# Altium schematic symbol library LEDs.SchLib: 11 symbols
Pins are listed as number, name and electrical type; pins without a type are passive.

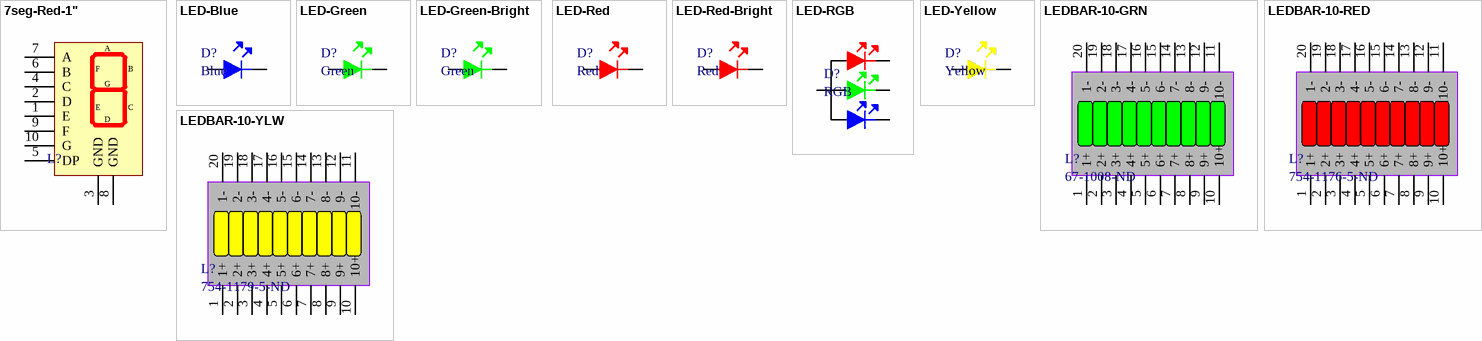
[diagram p0: symbols 7seg-Red-1" to LEDBAR-10-YLW]

## 7seg-Red-1"
designator L?, comment 754-1700-5-ND  (value not drawn)
DISPLAY 7-SEG 1" SGL RED 10DIP; Manufacturer: Kingbright; Manufacturer Part Number: SC10-21SRWA; Luminous Intensity: 120mcd; Forward Voltage: 3.7V; Forward Current: 30mA; Test Current: 20mA; Character Height: 26mm; Number of Characters: 1; Character Width: 13mm; Element Configuration: Common Cathode; Operating Supply Voltage: 1.85V; Wavelength: 640nm; Max Power Dissipation: 150mW; Number of Segments: 7; Supplier 1: Digi-Key; Stock 1: 1370; Pricing 1: 1=3.04, 10=2.691, 100=1.5624, 500=1.3888, 1000=1.1935, 2500=1.1284, 5000=1.10236 (USD); Mount: Through Hole; Case/Package: DIP; Number of Pins: 10; Color: Red; Min Operating Temperature: -40°C; Max Operating Temperature: 85°C; Package Quantity: 20; Packaging: Rail/Tube; Illumination Color: Red; Number of Positions: 1; Length: 1.34inch; Height: 1.339inch; Width: 0.945inch; REACH SVHC: No SVHC; ComponentLink1URL: http://www.farnell.com/datasheets/2047554.pdf?src-supplier=Element14; ComponentLink1Description: http://www.farnell.com/datasheets/2047554.pdf?src-supplier=Element14; ComponentLink2URL: https://www.distrelec.biz/Web/Downloads/ta/_e/iuSC10-21SRWA_data_e.pdf?mime=application%2Fpdf&src-supplier=Distrelec; ComponentLink2Description: https://www.distrelec.biz/Web/Downloads/ta/_e/iuSC10-21SRWA_data_e.pdf?mime=application%2Fpdf&src-supplier=Distrelec; ComponentLink3URL: http://www.rapidonline.com/pdf/57-0222.pdf?src-supplier=Rapid+Electronics; ComponentLink3Description: http://www.rapidonline.com/pdf/57-0222.pdf?src-supplier=Rapid+Electronics; ComponentLink4URL: http://uk.rs-online.com/webdocs/0b79/0900766b80b79adb.pdf?src-supplier=RSComponents; ComponentLink4Description: http://uk.rs-online.com/webdocs/0b79/0900766b80b79adb.pdf?src-supplier=RSComponents; ComponentLink5URL: http://www.mouser.com/ds/2/216/SC10-21SRWA-46725.pdf?src-supplier=Mouser; ComponentLink5Description: http://www.mouser.com/ds/2/216/SC10-21SRWA-46725.pdf?src-supplier=Mouser; ComponentLink6URL: http://www.kingbrightusa.com/images/catalog/SPEC/SC10-21SRWA.pdf?src-supplier=Digi-Key; ComponentLink6Description: http://www.kingbrightusa.com/images/catalog/SPEC/SC10-21SRWA.pdf?src-supplier=Digi-Key; Supplier Part Number 1: 754-1700-5-ND
footprint 7SEG-1"
pins: 1 E, 2 D, 3 GND, 4 C, 5 DP, 6 B, 7 A, 8 GND, 9 F, 10 G

## LED-Blue
designator D?, comment Blue
LED BLUE CLEAR 0603 SMD; Manufacturer: Wurth Electronics; Manufacturer Part Number: 150060BS75000; Luminous Intensity: 145mcd; Forward Current: 30mA; Forward Voltage: 3.2V; Wavelength: 470nm; Viewing Angle: 140°; Lens Style: Clear,Rectangular; Test Current: 20mA; Supplier 1: Digi-Key; Stock 1: 46078; Pricing 1: 1=0.16, 50=0.145, 100=0.125, 500=0.108 (USD); Mount: Surface Mount; Case/Package: 0603; Color: Blue; Case Code (Metric): 1608; Case Code (Imperial): 0603; Min Operating Temperature: -40°C; Max Operating Temperature: 85°C; Package Quantity: 4000; Packaging: Cut Tape; Dominant Wavelength: 470nm; Length: 1.6mm; Height: 0.7mm; Width: 0.8mm; REACH SVHC: Unknown; ComponentLink1URL: https://www.distrelec.biz/Web/Downloads/_t/ds/150060BS75000_eng_tds.pdf?mime=application%2Fpdf&src-supplier=Distrelec; ComponentLink1Description: https://www.distrelec.biz/Web/Downloads/_t/ds/150060BS75000_eng_tds.pdf?mime=application%2Fpdf&src-supplier=Distrelec; ComponentLink2URL: https://katalog.we-online.de/led/datasheet/150060BS75000.pdf?src-supplier=Digi-Key; ComponentLink2Description: https://katalog.we-online.de/led/datasheet/150060BS75000.pdf?src-supplier=Digi-Key; ComponentLink3URL: http://www.farnell.com/datasheets/1911343.pdf?src-supplier=Element14; ComponentLink3Description: http://www.farnell.com/datasheets/1911343.pdf?src-supplier=Element14; ComponentLink4URL: http://www.produktinfo.conrad.com/datenblaetter/750000-774999/759426-da-01-en-CHIPLED_0603_W_KL_BLAU_150060BS75000.pdf?src-supplier=Conrad; ComponentLink4Description: http://www.produktinfo.conrad.com/datenblaetter/750000-774999/759426-da-01-en-CHIPLED_0603_W_KL_BLAU_150060BS75000.pdf?src-supplier=Conrad; Supplier Part Number 1: 732-4966-6-ND
footprint LED-0603
pins: 1, 2

## LED-Green
designator D?, comment Green
LED GREEN CLEAR 0603 SMD; Manufacturer: Wurth Electronics; Manufacturer Part Number: 150060VS75000; Luminous Intensity: 40mcd; Viewing Angle: 140°; Forward Voltage: 2V; Wavelength: 570nm; Lens Style: Clear,Rectangular; Forward Current: 30mA; Test Current: 20mA; Supplier 1: Digi-Key; Stock 1: 118118; Pricing 1: 1=0.14, 50=0.133, 100=0.114, 500=0.099 (USD); Mount: Surface Mount; Case/Package: 0603; Number of Pins: 2; Color: Green; Case Code (Metric): 1608; Case Code (Imperial): 0603; Min Operating Temperature: -40°C; Max Operating Temperature: 85°C; Package Quantity: 1; Packaging: Tape and Reel; Dominant Wavelength: 570nm; Length: 1.6mm; Height: 0.7mm; Width: 0.8mm; REACH SVHC: Unknown; ComponentLink1URL: https://katalog.we-online.de/led/datasheet/150060VS75000.pdf?src-supplier=Digi-Key; ComponentLink1Description: https://katalog.we-online.de/led/datasheet/150060VS75000.pdf?src-supplier=Digi-Key; Supplier Part Number 1: 732-4980-1-ND
footprint LED-0603
pins: 1, 2

## LED-Green-Bright
designator D?, comment Green
LED GREEN CLEAR 0603 SMD; Manufacturer: Inolux; Manufacturer Part Number: IN-S63AT5G; Lens Style: Flat; Luminous Intensity: 350mcd; Forward Voltage: 3V; Test Current: 5mA; Viewing Angle: 120°; Dominant Wavelength: 525nm; Lens Size: 0.8mm; Supplier 1: Digi-Key; Stock 1: 13337; Pricing 1: 1=0.52, 10=0.372, 100=0.1654, 500=0.11576, 1000=0.09508 (USD); Mount: Surface Mount; Case/Package: 0603; Color: Green; Lens Color: Clear; Case Code (Imperial): 0603; Case Code (Metric): 1608; Packaging: Tape and Reel; Lens Transparency: Clear; Length: 1.6mm; Height: 0.39mm; Width: 0.8mm; ComponentLink1URL: http://www.inolux-corp.com/datasheet/SMDLED/Mono%20Color%20Top%20View/IN-S63AT%20Series_V1.1.pdf?src-supplier=Digi-Key; ComponentLink1Description: http://www.inolux-corp.com/datasheet/SMDLED/Mono%20Color%20Top%20View/IN-S63AT%20Series_V1.1.pdf?src-supplier=Digi-Key; Supplier Part Number 1: 1830-1062-6-ND
footprint LED-0603
pins: 1, 2

## LED-Red
designator D?, comment Red
LED RED CLEAR 0603 SMD; Manufacturer: Wurth Electronics; Manufacturer Part Number: 150060RS75000; Viewing Angle: 140°; Lens Style: Clear,Rectangular; Luminous Intensity: 250mcd; Forward Current: 30mA; Forward Voltage: 2V; Wavelength: 625nm; Test Current: 20mA; Supplier 1: Digi-Key; Stock 1: 18518; Pricing 1: 1=0.14, 50=0.133, 100=0.114, 500=0.099 (USD); Mount: Surface Mount; Case/Package: 0603; Color: Red; Case Code (Metric): 1608; Case Code (Imperial): 0603; Min Operating Temperature: -40°C; Max Operating Temperature: 85°C; Package Quantity: 1; Packaging: Cut Tape; Dominant Wavelength: 625nm; Length: 1.6mm; Height: 0.7mm; Width: 0.8mm; REACH SVHC: Unknown; ComponentLink1URL: https://katalog.we-online.de/led/datasheet/150060RS75000.pdf?src-supplier=Digi-Key; ComponentLink1Description: https://katalog.we-online.de/led/datasheet/150060RS75000.pdf?src-supplier=Digi-Key; ComponentLink2URL: http://www.produktinfo.conrad.com/datenblaetter/750000-774999/759428-da-01-en-CHIPLED_0603_W_KL_ROT_150060RS75000.pdf?src-supplier=Conrad; ComponentLink2Description: http://www.produktinfo.conrad.com/datenblaetter/750000-774999/759428-da-01-en-CHIPLED_0603_W_KL_ROT_150060RS75000.pdf?src-supplier=Conrad; Supplier Part Number 1: 732-4978-6-ND
footprint LED-0603
pins: 1, 2

## LED-Red-Bright
designator D?, comment Red
LED RED CLEAR 0603 SMD; Manufacturer: Inolux; Manufacturer Part Number: IN-S63ATR; Lens Style: Flat; Luminous Intensity: 45mcd; Forward Voltage: 2.2V; Test Current: 20mA; Viewing Angle: 120°; Dominant Wavelength: 622nm; Lens Size: 0.8mm; Supplier 1: Digi-Key; Stock 1: 6977; Pricing 1: 1=0.33, 10=0.24, 100=0.1136, 500=0.07576, 1000=0.05934 (USD); Mount: Surface Mount; Case/Package: 0603; Color: Red; Lens Color: Clear; Case Code (Imperial): 0603; Case Code (Metric): 1608; Packaging: Cut Tape; Lens Transparency: Clear; Length: 1.6mm; Height: 0.4mm; Width: 0.8mm; ComponentLink1URL: http://www.inolux-corp.com/datasheet/SMDLED/Mono%20Color%20Top%20View/IN-S63AT%20Series_V1.1.pdf?src-supplier=Digi-Key; ComponentLink1Description: http://www.inolux-corp.com/datasheet/SMDLED/Mono%20Color%20Top%20View/IN-S63AT%20Series_V1.1.pdf?src-supplier=Digi-Key; Supplier Part Number 1: 1830-1065-6-ND
footprint LED-0603
pins: 1, 2

## LED-RGB
designator D?, comment RGB
LED RGB CLEAR 4SMD; Manufacturer: Everlight; Manufacturer Part Number: EAST1616RGBB4; Color: Blue,Green,Red; Lens Color: Colorless; Lens Style: Flat; Element Configuration: Common Anode; Forward Voltage: 2.8V; Test Current: 5mA; Viewing Angle: 120°; Lens Size: 1.1mm; Supplier 1: Digi-Key; Stock 1: 11185; Pricing 1: 1=0.49, 10=0.343, 100=0.2003, 500=0.13736, 1000=0.11446 (USD); Mount: Surface Mount; Case/Package: 0606; Case Code (Imperial): 0606; Case Code (Metric): 1616; Packaging: Tape and Reel; Lens Transparency: Clear; Length: 1.6mm; Height: 0.45mm; Width: 1.6mm; ComponentLink1URL: https://everlightamericas.com/index.php?controller=attachment&amp;id_attachment=2827&src-supplier=Digi-Key; ComponentLink1Description: https://everlightamericas.com/index.php?controller=attachment&amp;id_attachment=2827&src-supplier=Digi-Key; ComponentLink2URL: https://everlightamericas.com/index.php?controller=attachment&id_attachment=2827&src-supplier=Digi-Key; ComponentLink2Description: https://everlightamericas.com/index.php?controller=attachment&id_attachment=2827&src-supplier=Digi-Key; Supplier Part Number 1: 1080-1552-6-ND
footprint LED-4SMD
pins: 1, 2, 3, 4

## LED-Yellow
designator D?, comment Yellow
LED YELLOW CLEAR 0603 SMD; Manufacturer: Wurth Electronics; Manufacturer Part Number: 150060YS75000; Viewing Angle: 140°; Lens Style: Clear,Rectangular; Wavelength: 590nm; Luminous Intensity: 120mcd; Forward Voltage: 2V; Forward Current: 30mA; Test Current: 20mA; Supplier 1: Digi-Key; Stock 1: 78; Pricing 1: 1=0.14, 50=0.133, 100=0.114, 500=0.099 (USD); Mount: Surface Mount; Case/Package: 0603; Case Code (Metric): 1608; Case Code (Imperial): 0603; Color: Yellow; Min Operating Temperature: -40°C; Max Operating Temperature: 85°C; Package Quantity: 4000; Packaging: Tape and Reel; Dominant Wavelength: 590nm; Length: 1.6mm; Height: 0.7mm; Width: 0.8mm; REACH SVHC: Unknown; ComponentLink1URL: http://katalog.we-online.de/led/datasheet/150060YS75000.pdf?src-supplier=Newark; ComponentLink1Description: http://katalog.we-online.de/led/datasheet/150060YS75000.pdf?src-supplier=Newark; ComponentLink2URL: https://katalog.we-online.de/led/datasheet/150060YS75000.pdf?src-supplier=Digi-Key; ComponentLink2Description: https://katalog.we-online.de/led/datasheet/150060YS75000.pdf?src-supplier=Digi-Key; ComponentLink3URL: http://www.farnell.com/datasheets/1911348.pdf?src-supplier=Element14; ComponentLink3Description: http://www.farnell.com/datasheets/1911348.pdf?src-supplier=Element14; ComponentLink4URL: https://www.distrelec.biz/Web/Downloads/_t/ds/150060YS75000_eng_tds.pdf?mime=application%2Fpdf&src-supplier=Distrelec; ComponentLink4Description: https://www.distrelec.biz/Web/Downloads/_t/ds/150060YS75000_eng_tds.pdf?mime=application%2Fpdf&src-supplier=Distrelec; ComponentLink5URL: http://www.produktinfo.conrad.com/datenblaetter/750000-774999/759432-da-01-en-CHIPLED_0603_W_KL_GELB_150060YS75000.pdf?src-supplier=Conrad; ComponentLink5Description: http://www.produktinfo.conrad.com/datenblaetter/750000-774999/759432-da-01-en-CHIPLED_0603_W_KL_GELB_150060YS75000.pdf?src-supplier=Conrad; Supplier Part Number 1: 732-4981-6-ND
footprint LED-0603
pins: 1, 2

## LEDBAR-10-GRN
designator L?, comment 67-1008-ND
LED ARRAY 10X25MM 10SEG GRN DIFF; Manufacturer: Lumex; Manufacturer Part Number: SSA-LXB10GW-GF/LP; Color: Green; Voltage Rating: 2.2V; Operating Supply Voltage: 2.6V; Number of Contacts: 18; Display Type: Bar Graph; Luminous Intensity: 8mcd; Forward Current: 20mA; Wavelength: 565nm; Power Consumption: 105mW; Viewing Angle: 160°; Lens Style: Diffused; Current: 25mA; Number of LEDs: 10; Supplier 1: Digi-Key; Stock 1: 6048; Pricing 1: 1=2.28, 10=2.018, 100=1.1718, 500=1.0416, 1000=0.89513, 2500=0.8463, 5000=0.82677, 10000=0.81375 (USD); Mount: Through Hole; Min Operating Temperature: -40°C; Max Operating Temperature: 85°C; Package Quantity: 20; Packaging: Bulk; Forward Voltage: 2.2V; Illumination Color: Green; Length: 25.1mm; Height: 6.8mm; Width: 10.1mm; REACH SVHC: No SVHC; Lead Free: Lead Free; ComponentLink1URL: http://www.lumex.com/content/files/ProductAttachment/SSA-LXB10GW-GF-LP.pdf?src-supplier=Digi-Key; ComponentLink1Description: http://www.lumex.com/content/files/ProductAttachment/SSA-LXB10GW-GF-LP.pdf?src-supplier=Digi-Key; ComponentLink2URL: http://www.farnell.com/datasheets/677482.pdf?src-supplier=Farnell; ComponentLink2Description: http://www.farnell.com/datasheets/677482.pdf?src-supplier=Farnell; ComponentLink3URL: http://www.farnell.com/datasheets/677482.pdf?src-supplier=Element14; ComponentLink3Description: http://www.farnell.com/datasheets/677482.pdf?src-supplier=Element14; ComponentLink4URL: http://www.farnell.com/datasheets/269031.pdf?src-supplier=Element14; ComponentLink4Description: http://www.farnell.com/datasheets/269031.pdf?src-supplier=Element14; ComponentLink5URL: http://www.mouser.com/ds/2/244/SSA-LXB10GW-GF%20LP-115645.pdf?src-supplier=Mouser; ComponentLink5Description: http://www.mouser.com/ds/2/244/SSA-LXB10GW-GF%20LP-115645.pdf?src-supplier=Mouser; Supplier Part Number 1: 67-1008-ND
footprint LEDBAR-10
pins: 1 1+, 2 2+, 3 3+, 4 4+, 5 5+, 6 6+, 7 7+, 8 8+, 9 9+, 10 10+, 11 10-, 12 9-, 13 8-, 14 7-, 15 6-, 16 5-, 17 4-, 18 3-, 19 2-, 20 1-

## LEDBAR-10-RED
designator L?, comment 754-1176-5-ND
LED BAR GRAPH 10SEG 627NM RED; Manufacturer: Kingbright; Manufacturer Part Number: DC-10EWA; Lens Color: White; Lens Style: Diffused; Voltage Rating: 2V; Luminous Intensity: 9mcd; Wavelength: 625nm; Current: 30mA; Number of Segments: 10; Forward Current: 20mA; Lens Size: 1.78mm; Supplier 1: Digi-Key; Stock 1: 21; Pricing 1: 1=2.79, 10=2.474, 100=1.4364, 500=1.2768, 1000=1.09725, 2500=1.0374, 5000=1.01346, 10000=0.9975, 25000=0.97356 (USD); Mount: Through Hole; Color: Red; Min Operating Temperature: -40°C; Max Operating Temperature: 85°C; Forward Voltage: 2V; Illumination Color: Red; Package Quantity: 20; Operating Supply Voltage: 2V; Packaging: Rail/Tube; Number of LEDs: 10; Display Type: Bar Graph; Length: 25.4mm; Height: 10.16mm; Width: 25.4mm; REACH SVHC: No SVHC; Lead Free: Lead Free; ComponentLink1URL: https://www.distrelec.biz/Web/Downloads/12/75/tl661272-661275.pdf?mime=application%2Fpdf&src-supplier=Distrelec; ComponentLink1Description: https://www.distrelec.biz/Web/Downloads/12/75/tl661272-661275.pdf?mime=application%2Fpdf&src-supplier=Distrelec; ComponentLink2URL: http://www.mouser.com/ds/2/216/DC10EWA-8483.pdf?src-supplier=Mouser; ComponentLink2Description: http://www.mouser.com/ds/2/216/DC10EWA-8483.pdf?src-supplier=Mouser; ComponentLink3URL: http://www.kingbrightusa.com/images/catalog/SPEC/DC10EWA.pdf?src-supplier=Digi-Key; ComponentLink3Description: http://www.kingbrightusa.com/images/catalog/SPEC/DC10EWA.pdf?src-supplier=Digi-Key; ComponentLink4URL: http://uk.rs-online.com/webdocs/1385/0900766b81385017.pdf?src-supplier=RSComponents; ComponentLink4Description: http://uk.rs-online.com/webdocs/1385/0900766b81385017.pdf?src-supplier=RSComponents; ComponentLink5URL: http://www.rapidonline.com/pdf/55-0190e.pdf?src-supplier=Rapid+Electronics; ComponentLink5Description: http://www.rapidonline.com/pdf/55-0190e.pdf?src-supplier=Rapid+Electronics; ComponentLink6URL: http://www.farnell.com/datasheets/1683489.pdf?src-supplier=Element14; ComponentLink6Description: http://www.farnell.com/datasheets/1683489.pdf?src-supplier=Element14; ComponentLink7URL: http://www.produktinfo.conrad.com/datenblaetter/175000-199999/184837-da-01-en-RGB_ROT_LED_BAND.pdf?src-supplier=Conrad; ComponentLink7Description: http://www.produktinfo.conrad.com/datenblaetter/175000-199999/184837-da-01-en-RGB_ROT_LED_BAND.pdf?src-supplier=Conrad; ComponentLink8URL: http://www.produktinfo.conrad.com/datenblaetter/150000-174999/160137-da-01-en-BARGRAPH_ANZEIGE_TYP_DC_10EWA.pdf?src-supplier=Conrad; ComponentLink8Description: http://www.produktinfo.conrad.com/datenblaetter/150000-174999/160137-da-01-en-BARGRAPH_ANZEIGE_TYP_DC_10EWA.pdf?src-supplier=Conrad; Supplier Part Number 1: 754-1176-5-ND
footprint LEDBAR-10
pins: 1 1+, 2 2+, 3 3+, 4 4+, 5 5+, 6 6+, 7 7+, 8 8+, 9 9+, 10 10+, 11 10-, 12 9-, 13 8-, 14 7-, 15 6-, 16 5-, 17 4-, 18 3-, 19 2-, 20 1-

## LEDBAR-10-YLW
designator L?, comment 754-1179-5-ND
LED BAR GRAPH 10SEG 590NM YLW; Manufacturer: Kingbright; Manufacturer Part Number: DC-10YWA; Color: Yellow; Lens Color: White; Lens Style: Diffused,Round,Domed; Voltage Rating: 2.1V; Luminous Intensity: 9mcd; Wavelength: 588nm; Current: 30mA; Number of Segments: 10; Forward Current: 20mA; Lens Size: 3mm; Supplier 1: Digi-Key; Stock 1: 23; Pricing 1: 1=2.84, 10=2.517, 100=1.4616, 500=1.2992, 1000=1.1165, 2500=1.0556, 5000=1.03124, 10000=1.015, 25000=0.99064 (USD); Mount: Through Hole; Number of Pins: 20; Min Operating Temperature: -40°C; Max Operating Temperature: 85°C; Package Quantity: 20; Packaging: Rail/Tube; Forward Voltage: 2.1V; Illumination Color: Yellow; Operating Supply Voltage: 2.1V; Number of LEDs: 10; Display Type: Bar Graph; Height: 10.16mm; Width: 25.4mm; REACH SVHC: No SVHC; ComponentLink1URL: http://www.rapidonline.com/pdf/55-0190e.pdf?src-supplier=Rapid+Electronics; ComponentLink1Description: http://www.rapidonline.com/pdf/55-0190e.pdf?src-supplier=Rapid+Electronics; ComponentLink2URL: https://www.distrelec.biz/Web/Downloads/12/75/tl661272-661275.pdf?mime=application%2Fpdf&src-supplier=Distrelec; ComponentLink2Description: https://www.distrelec.biz/Web/Downloads/12/75/tl661272-661275.pdf?mime=application%2Fpdf&src-supplier=Distrelec; ComponentLink3URL: http://www.kingbrightusa.com/images/catalog/SPEC/DC10YWA.pdf?src-supplier=Digi-Key; ComponentLink3Description: http://www.kingbrightusa.com/images/catalog/SPEC/DC10YWA.pdf?src-supplier=Digi-Key; ComponentLink4URL: http://uk.rs-online.com/webdocs/0026/0900766b80026db8.pdf?src-supplier=RSComponents; ComponentLink4Description: http://uk.rs-online.com/webdocs/0026/0900766b80026db8.pdf?src-supplier=RSComponents; ComponentLink5URL: http://www.farnell.com/datasheets/1683491.pdf?src-supplier=Element14; ComponentLink5Description: http://www.farnell.com/datasheets/1683491.pdf?src-supplier=Element14; ComponentLink6URL: http://www.mouser.com/ds/2/216/DC10YWA-43302.pdf?src-supplier=Mouser; ComponentLink6Description: http://www.mouser.com/ds/2/216/DC10YWA-43302.pdf?src-supplier=Mouser; ComponentLink7URL: http://www.produktinfo.conrad.com/datenblaetter/150000-174999/160142-da-01-en-BARGRAPH_ANZEIGE_TYP_DC_10YWA.pdf?src-supplier=Conrad; ComponentLink7Description: http://www.produktinfo.conrad.com/datenblaetter/150000-174999/160142-da-01-en-BARGRAPH_ANZEIGE_TYP_DC_10YWA.pdf?src-supplier=Conrad; Supplier Part Number 1: 754-1179-5-ND
footprint LEDBAR-10
pins: 1 1+, 2 2+, 3 3+, 4 4+, 5 5+, 6 6+, 7 7+, 8 8+, 9 9+, 10 10+, 11 10-, 12 9-, 13 8-, 14 7-, 15 6-, 16 5-, 17 4-, 18 3-, 19 2-, 20 1-